# Altium schematic symbol library Mos_ROHM_RSJ250P10FRATL_25A.SchLib: 1 symbol
Pins are listed as number, name and electrical type; pins without a type are passive.

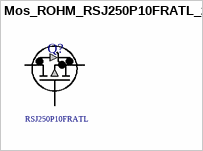
[diagram p0: symbol Mos_ROHM_RSJ250P10FRATL_25A]

## Mos_ROHM_RSJ250P10FRATL_25A
designator Q?  Series: RSJ250P10FRATL  (hidden comment: Mos_ROHM_RSJ250P10FRATL_25A)
MOSFET Pch -100V Vds -25A 0.05Rds(on) 60Qg; Supplier 1: Mouser; Supplier Part Number 1: 755-RSJ250P10FRATL
footprint Mos_ROHM_RSJ250P10FRATL_25A
pins: 1 G, 2 D, 3 S